# Altium footprint library PCB - LEADED - SOP65P640X120-20N.PCBLIB: 1 footprints
Each footprint in its own frame and in the unit in brackets; x right, y up, seen from the top. Pads: shape width x height; smd on the part's side, far side on the other; paste and mask are expansions set on the pad; w line width, h text height; cw(c..) or ccw(c..) is an arc to the next point about the centre after c.
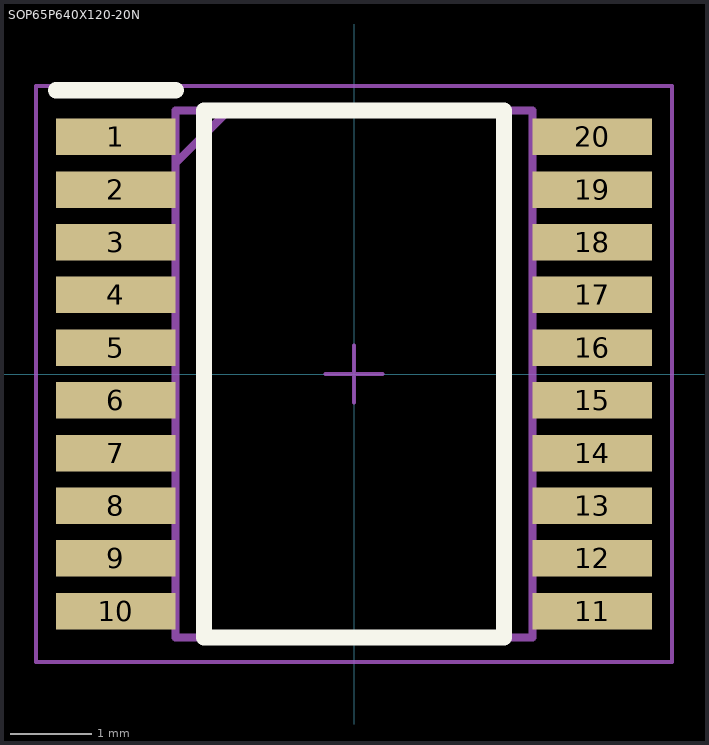
[diagram p0: the footprint, top view; thin cyan lines are the x and y axes]

## SOP65P640X120-20N [mm]
pads (20):
  rect 1.475x0.45 smd: 1(-2.938,2.925) 2(-2.938,2.275) 3(-2.938,1.625) 4(-2.938,0.975) 5(-2.938,0.325) 6(-2.938,-0.325) 7(-2.938,-0.975) 8(-2.938,-1.625) 9(-2.938,-2.275) 10(-2.938,-2.925) 11(2.938,-2.925) 12(2.938,-2.275) 13(2.938,-1.625) 14(2.938,-0.975) 15(2.938,-0.325) 16(2.938,0.325) 17(2.938,0.975) 18(2.938,1.625) 19(2.938,2.275) 20(2.938,2.925)
Top Overlay:
  lines w0.2: -3.675,3.5 -2.2,3.5 ; -1.85,-3.25 -1.85,3.25 1.85,3.25 1.85,-3.25 -1.85,-3.25
Top Assembly:
  lines w0.1: -2.2,2.6 -1.55,3.25 ; -2.2,-3.25 -2.2,3.25 2.2,3.25 2.2,-3.25 -2.2,-3.25
Top Courtyard:
  lines w0.05: -3.925,-3.55 -3.925,3.55 3.925,3.55 3.925,-3.55 -3.925,-3.55
Top Designator:
  text ".Designator" at -0.254,3.683 h0.76
Top Component Center:
  lines w0.05: -0.35,0 0.35,0 ; 0,-0.35 0,0.35
Top Value (Mech13):
  text ".Comment" at -0.254,4.826 h0.76
3D body "TXB0108PWR.stp": height 1.13, standoff 0, extent -3.2,-3.25 3.2,3.25